# Altium footprint library Molex Saber Connector.PcbLib: 1 footprints
Each footprint in its own frame and in the unit in brackets; x right, y up, seen from the top. Pads: shape width x height; smd on the part's side, far side on the other; paste and mask are expansions set on the pad; w line width, h text height; cw(c..) or ccw(c..) is an arc to the next point about the centre after c.
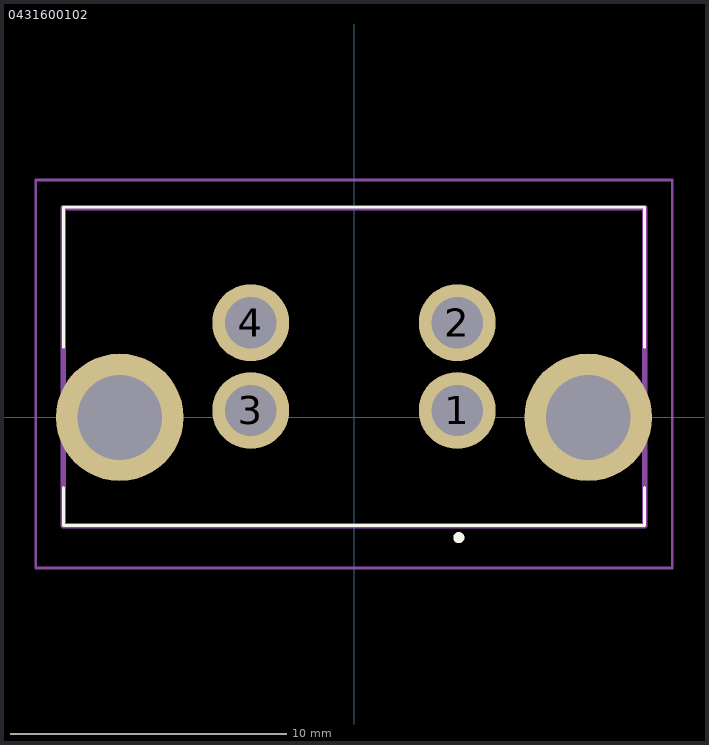
[diagram p0: the footprint, top view; thin cyan lines are the x and y axes]

## 0431600102 [mm]
pads (6):
  round 2.79 hole 1.86: 1(3.745,0.25) 2(3.745,3.43) 3(-3.745,0.25) 4(-3.745,3.43)
  round 4.62 hole 3.08: ""(-8.495,0) ""(8.495,0)
L26-Silk Screen Top (Multiple PADS layers...):
  lines w0.1: -10.54,-2.54 -10.54,-3.925 10.16,-3.925 10.54,-3.925 10.54,-2.54 ; -10.54,2.54 -10.54,7.62 10.54,7.62 10.54,2.54
  lines w0.2: 3.9,-4.36 cw(c3.8,-4.36) 3.7,-4.36 cw(c3.801,-4.36) 3.901,-4.36
L15 (Multiple PADS layers...):
  lines w0.2: -10.54,-3.925 -10.54,7.605 10.54,7.605 10.54,-3.925 -10.54,-3.925
L20:
  lines w0.1: -11.54,-5.461 -11.54,8.605 11.54,8.605 11.54,-5.461 -11.54,-5.461